# Altium footprint library RNMF14FAD10K0.PcbLib: 1 footprints
Each footprint in its own frame and in the unit in brackets; x right, y up, seen from the top. Pads: shape width x height; smd on the part's side, far side on the other; paste and mask are expansions set on the pad; w line width, h text height; cw(c..) or ccw(c..) is an arc to the next point about the centre after c.
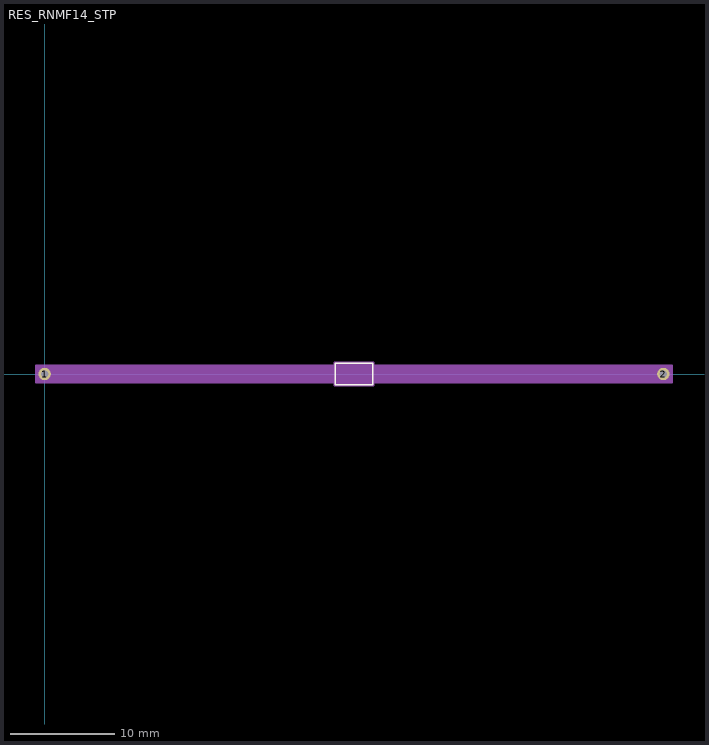
[diagram p0: the footprint, top view; thin cyan lines are the x and y axes]

## RES_RNMF14_STP [mil]
pads (2):
  round 47 / inner round 60 / far side round 47 hole 27 paste-23.5 mask+0: 1(0,0) 2(2334,0)
Top Overlay:
  lines w6: 1097,-40 1237,-40 1237,40 1097,40 1097,-40
Mechanical 13:
  lines w1: 0,0 1102,0 ; 1232,0 2334,0 ; 1102,-35 1232,-35 1232,35 1102,35 1102,-35
Mechanical 15:
  region: 1092,-33.5 -33.5,-33.5 -33.5,33.5 1092,33.5 1092,45 1242,45 1242,33.5 2367.5,33.5 2367.5,-33.5 1242,-33.5 1242,-45 1092,-45
  region: 1232,-35 1102,-35 1102,35 1232,35
  lines w6: -33.5,-33.5 -33.5,33.5 1092,33.5 1092,45 1242,45 1242,33.5 2367.5,33.5 2367.5,-33.5 1242,-33.5 1242,-45 1092,-45 1092,-33.5 -33.5,-33.5
3D body "RES_RNMF14_STP.step": height 70, standoff -100, extent -8.5,-34.74 2342.52,34.74